# Altium schematic symbol library 1437566-3.SchLib: 1 symbol
Pins are listed as number, name and electrical type; pins without a type are passive.

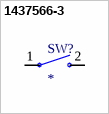
[diagram p0: symbol 1437566-3]

## 1437566-3
designator SW?
Switch Tactile OFF (ON) SPST Rectangular Button Gull Wing 0.05A 12VDC SMD Loose Piece; MP: 1437566-3; Price: None; Value: *; Package: None; Availability: Unavailable
footprint SW_1437566-3
pins: 1, 2